# Altium footprint library ATMEGA328P-MUR.PcbLib: 3 footprints
Each footprint in its own frame and in the unit in brackets; x right, y up, seen from the top. Pads: shape width x height; smd on the part's side, far side on the other; paste and mask are expansions set on the pad; w line width, h text height; cw(c..) or ccw(c..) is an arc to the next point about the centre after c.
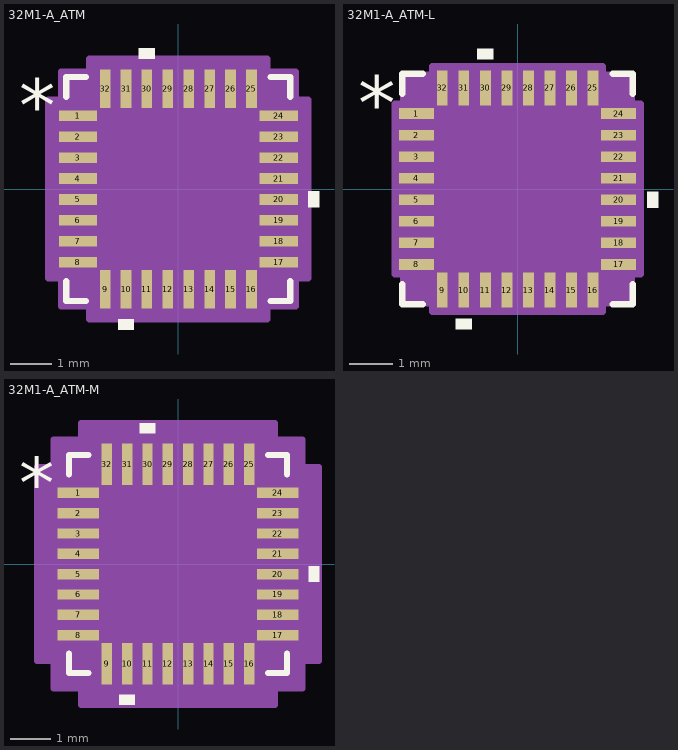
[diagram p0: the footprints below, top view; thin cyan lines are the x and y axes]

## 32M1-A_ATM [mil]
pads (32):
  rect 36x10 smd paste+0 mask+0: 1(-94.5,68.9) 2(-94.5,49.21) 3(-94.5,29.53) 4(-94.5,9.84) 5(-94.5,-9.84) 6(-94.5,-29.53) 7(-94.5,-49.21) 8(-94.5,-68.9) 17(94.5,-68.9) 18(94.5,-49.21) 19(94.5,-29.53) 20(94.5,-9.84) 21(94.5,9.84) 22(94.5,29.53) 23(94.5,49.21) 24(94.5,68.9)
  rect 10x36 smd paste+0 mask+0: 9(-68.9,-94.5) 10(-49.21,-94.5) 11(-29.53,-94.5) 12(-9.84,-94.5) 13(9.84,-94.5) 14(29.53,-94.5) 15(49.21,-94.5) 16(68.9,-94.5) 25(68.9,94.5) 26(49.21,94.5) 27(29.53,94.5) 28(9.84,94.5) 29(-9.84,94.5) 30(-29.53,94.5) 31(-49.21,94.5) 32(-68.9,94.5)
Top Overlay:
  region: -41.71,-122.5 -56.71,-122.5 -56.71,-132.5 -41.71,-132.5
  region: 122.5,-2.34 132.5,-2.34 132.5,-17.34 122.5,-17.34
  region: -22.03,122.5 -37.03,122.5 -37.03,132.5 -22.03,132.5
  lines w6: -105.5,-87 -105.5,-105.5 -87,-105.5 ; -105.5,87 -105.5,105.5 -87,105.5 ; 87,-105.5 105.5,-105.5 105.5,-87 ; 87,105.5 105.5,105.5 105.5,87
  text "*" at -150,53.74 h50
Mechanical 13:
  lines w1: -100.5,50.5 -50.5,100.5 ; -100.5,-100.5 100.5,-100.5 ; -100.5,-100.5 -100.5,100.5 ; -100.5,-100.5 -100.5,-100.5 ; -100.5,-74.9 -100.5,-62.9 ; -100.5,-74.9 -100.5,-62.9 ; -100.5,-74.9 -100.5,-74.9 ; -100.5,-62.9 -100.5,-62.9 ; -100.5,-55.21 -100.5,-43.21 ; -100.5,-55.21 -100.5,-43.21 ; -100.5,-55.21 -100.5,-55.21 ; -100.5,-43.21 -100.5,-43.21 ; -100.5,-35.53 -100.5,-23.53 ; -100.5,-35.53 -100.5,-23.53 ; -100.5,-35.53 -100.5,-35.53 ; -100.5,-23.53 -100.5,-23.53 ; -100.5,-15.84 -100.5,-3.84 ; -100.5,-15.84 -100.5,-3.84 ; -100.5,-15.84 -100.5,-15.84 ; -100.5,-3.84 -100.5,-3.84 ; -100.5,3.84 -100.5,15.84 ; -100.5,3.84 -100.5,15.84 ; -100.5,3.84 -100.5,3.84 ; -100.5,15.84 -100.5,15.84 ; -100.5,23.53 -100.5,35.53 ; -100.5,23.53 -100.5,35.53 ; -100.5,23.53 -100.5,23.53 ; -100.5,35.53 -100.5,35.53 ; -100.5,43.21 -100.5,55.21 ; -100.5,43.21 -100.5,55.21 ; -100.5,43.21 -100.5,43.21 ; -100.5,55.21 -100.5,55.21 ; -100.5,62.9 -100.5,74.9 ; -100.5,62.9 -100.5,74.9 ; -100.5,62.9 -100.5,62.9 ; -100.5,74.9 -100.5,74.9 ; -100.5,100.5 100.5,100.5 ; -100.5,100.5 -100.5,100.5 ; -74.9,-100.5 -62.9,-100.5 ; -74.9,-100.5 -74.9,-100.5 ; -74.9,-100.5 -62.9,-100.5 ; -74.9,100.5 -62.9,100.5 ; -74.9,100.5 -62.9,100.5 ; -74.9,100.5 -74.9,100.5 ; -62.9,-100.5 -62.9,-100.5 ; -62.9,100.5 -62.9,100.5 ; -55.21,-100.5 -43.21,-100.5 ; -55.21,-100.5 -55.21,-100.5 ; -55.21,-100.5 -43.21,-100.5 ; -55.21,100.5 -43.21,100.5 ; -55.21,100.5 -43.21,100.5 ; -55.21,100.5 -55.21,100.5 ; -43.21,-100.5 -43.21,-100.5 ; -43.21,100.5 -43.21,100.5 ; -35.53,-100.5 -23.53,-100.5 ; -35.53,-100.5 -35.53,-100.5 ; -35.53,-100.5 -23.53,-100.5 ; -35.53,100.5 -23.53,100.5 ; -35.53,100.5 -23.53,100.5 ; -35.53,100.5 -35.53,100.5 ; -23.53,-100.5 -23.53,-100.5 ; -23.53,100.5 -23.53,100.5 ; -15.84,-100.5 -3.84,-100.5 ; -15.84,-100.5 -15.84,-100.5 ; -15.84,-100.5 -3.84,-100.5 ; -15.84,100.5 -3.84,100.5 ; -15.84,100.5 -3.84,100.5 ; -15.84,100.5 -15.84,100.5 ; -3.84,-100.5 -3.84,-100.5 ; -3.84,100.5 -3.84,100.5 ; 3.84,-100.5 15.84,-100.5 ; 3.84,-100.5 3.84,-100.5 ; 3.84,-100.5 15.84,-100.5 ; 3.84,100.5 15.84,100.5 ; 3.84,100.5 15.84,100.5 ; 3.84,100.5 3.84,100.5 ; 15.84,-100.5 15.84,-100.5 ; 15.84,100.5 15.84,100.5 ; 23.53,-100.5 35.53,-100.5 ; 23.53,-100.5 23.53,-100.5 ; 23.53,-100.5 35.53,-100.5 ; 23.53,100.5 35.53,100.5 ; 23.53,100.5 35.53,100.5 ; 23.53,100.5 23.53,100.5 ; 35.53,-100.5 35.53,-100.5 ; 35.53,100.5 35.53,100.5 ; 43.21,-100.5 55.21,-100.5 ; 43.21,-100.5 43.21,-100.5 ; 43.21,-100.5 55.21,-100.5 ; 43.21,100.5 55.21,100.5 ; 43.21,100.5 55.21,100.5 ; 43.21,100.5 43.21,100.5 ; 55.21,-100.5 55.21,-100.5 ; 55.21,100.5 55.21,100.5 ; 62.9,-100.5 74.9,-100.5 ; 62.9,-100.5 62.9,-100.5 ; 62.9,-100.5 74.9,-100.5 ; 62.9,100.5 74.9,100.5 ; 62.9,100.5 74.9,100.5 ; 62.9,100.5 62.9,100.5 ; 74.9,-100.5 74.9,-100.5 ; 74.9,100.5 74.9,100.5 ; 100.5,-100.5 100.5,-100.5 ; 100.5,-100.5 100.5,100.5 ; 100.5,-74.9 100.5,-62.9 ; 100.5,-74.9 100.5,-74.9 ; 100.5,-74.9 100.5,-62.9 ; 100.5,-62.9 100.5,-62.9 ; 100.5,-55.21 100.5,-43.21 ; 100.5,-55.21 100.5,-55.21 ; 100.5,-55.21 100.5,-43.21 ; 100.5,-43.21 100.5,-43.21 ; 100.5,-35.53 100.5,-23.53 ; 100.5,-35.53 100.5,-35.53 ; 100.5,-35.53 100.5,-23.53 ; 100.5,-23.53 100.5,-23.53 ; 100.5,-15.84 100.5,-3.84 ; 100.5,-15.84 100.5,-15.84 ; 100.5,-15.84 100.5,-3.84 ; 100.5,-3.84 100.5,-3.84 ; 100.5,3.84 100.5,15.84 ; 100.5,3.84 100.5,3.84 ; 100.5,3.84 100.5,15.84 ; 100.5,15.84 100.5,15.84 ; 100.5,23.53 100.5,35.53 ; 100.5,23.53 100.5,23.53 ; 100.5,23.53 100.5,35.53 ; 100.5,35.53 100.5,35.53 ; 100.5,43.21 100.5,55.21 ; 100.5,43.21 100.5,43.21 ; 100.5,43.21 100.5,55.21 ; 100.5,55.21 100.5,55.21 ; 100.5,62.9 100.5,74.9 ; 100.5,62.9 100.5,62.9 ; 100.5,62.9 100.5,74.9 ; 100.5,74.9 100.5,74.9 ; 100.5,100.5 100.5,100.5
  text "*" at -89,53.74 h50
Mechanical 15:
  region: -83.9,-110.5 -110.5,-110.5 -110.5,-83.9 -122.5,-83.9 -122.5,83.9 -110.5,83.9 -110.5,110.5 -83.9,110.5 -83.9,122.5 83.9,122.5 83.9,110.5 110.5,110.5 110.5,83.9 122.5,83.9 122.5,-83.9 110.5,-83.9 110.5,-110.5 83.9,-110.5 83.9,-122.5 -83.9,-122.5
  lines w6: -122.5,-83.9 -110.5,-83.9 -110.5,-110.5 -83.9,-110.5 -83.9,-122.5 83.9,-122.5 83.9,-110.5 110.5,-110.5 110.5,-83.9 122.5,-83.9 122.5,83.9 110.5,83.9 110.5,110.5 83.9,110.5 83.9,122.5 -83.9,122.5 -83.9,110.5 -110.5,110.5 -110.5,83.9 -122.5,83.9 -122.5,-83.9
3D body "32M1-A_ATM.step": height 65.12, standoff 0, extent -100.51,-100.51 100.51,100.51

## 32M1-A_ATM-L [mil]
pads (32):
  rect 32x10 smd paste+0 mask+0: 1(-92.5,68.9) 2(-92.5,49.21) 3(-92.5,29.53) 4(-92.5,9.84) 5(-92.5,-9.84) 6(-92.5,-29.53) 7(-92.5,-49.21) 8(-92.5,-68.9) 17(92.5,-68.9) 18(92.5,-49.21) 19(92.5,-29.53) 20(92.5,-9.84) 21(92.5,9.84) 22(92.5,29.53) 23(92.5,49.21) 24(92.5,68.9)
  rect 10x32 smd paste+0 mask+0: 9(-68.9,-92.5) 10(-49.21,-92.5) 11(-29.53,-92.5) 12(-9.84,-92.5) 13(9.84,-92.5) 14(29.53,-92.5) 15(49.21,-92.5) 16(68.9,-92.5) 25(68.9,92.5) 26(49.21,92.5) 27(29.53,92.5) 28(9.84,92.5) 29(-9.84,92.5) 30(-29.53,92.5) 31(-49.21,92.5) 32(-68.9,92.5)
Top Overlay:
  region: -41.71,-118.5 -56.71,-118.5 -56.71,-128.5 -41.71,-128.5
  region: 118.5,-2.34 128.5,-2.34 128.5,-17.34 118.5,-17.34
  region: -22.03,118.5 -37.03,118.5 -37.03,128.5 -22.03,128.5
  lines w6: -105.5,-87 -105.5,-105.5 -87,-105.5 ; -105.5,87 -105.5,105.5 -87,105.5 ; 87,-105.5 105.5,-105.5 105.5,-87 ; 87,105.5 105.5,105.5 105.5,87
  text "*" at -146,53.74 h50
Mechanical 13:
  lines w1: -100.5,50.5 -50.5,100.5 ; -100.5,-100.5 100.5,-100.5 ; -100.5,-100.5 -100.5,100.5 ; -100.5,-100.5 -100.5,-100.5 ; -100.5,-74.9 -100.5,-62.9 ; -100.5,-74.9 -100.5,-62.9 ; -100.5,-74.9 -100.5,-74.9 ; -100.5,-62.9 -100.5,-62.9 ; -100.5,-55.21 -100.5,-43.21 ; -100.5,-55.21 -100.5,-43.21 ; -100.5,-55.21 -100.5,-55.21 ; -100.5,-43.21 -100.5,-43.21 ; -100.5,-35.53 -100.5,-23.53 ; -100.5,-35.53 -100.5,-23.53 ; -100.5,-35.53 -100.5,-35.53 ; -100.5,-23.53 -100.5,-23.53 ; -100.5,-15.84 -100.5,-3.84 ; -100.5,-15.84 -100.5,-3.84 ; -100.5,-15.84 -100.5,-15.84 ; -100.5,-3.84 -100.5,-3.84 ; -100.5,3.84 -100.5,15.84 ; -100.5,3.84 -100.5,15.84 ; -100.5,3.84 -100.5,3.84 ; -100.5,15.84 -100.5,15.84 ; -100.5,23.53 -100.5,35.53 ; -100.5,23.53 -100.5,35.53 ; -100.5,23.53 -100.5,23.53 ; -100.5,35.53 -100.5,35.53 ; -100.5,43.21 -100.5,55.21 ; -100.5,43.21 -100.5,55.21 ; -100.5,43.21 -100.5,43.21 ; -100.5,55.21 -100.5,55.21 ; -100.5,62.9 -100.5,74.9 ; -100.5,62.9 -100.5,74.9 ; -100.5,62.9 -100.5,62.9 ; -100.5,74.9 -100.5,74.9 ; -100.5,100.5 100.5,100.5 ; -100.5,100.5 -100.5,100.5 ; -74.9,-100.5 -62.9,-100.5 ; -74.9,-100.5 -74.9,-100.5 ; -74.9,-100.5 -62.9,-100.5 ; -74.9,100.5 -62.9,100.5 ; -74.9,100.5 -62.9,100.5 ; -74.9,100.5 -74.9,100.5 ; -62.9,-100.5 -62.9,-100.5 ; -62.9,100.5 -62.9,100.5 ; -55.21,-100.5 -43.21,-100.5 ; -55.21,-100.5 -55.21,-100.5 ; -55.21,-100.5 -43.21,-100.5 ; -55.21,100.5 -43.21,100.5 ; -55.21,100.5 -43.21,100.5 ; -55.21,100.5 -55.21,100.5 ; -43.21,-100.5 -43.21,-100.5 ; -43.21,100.5 -43.21,100.5 ; -35.53,-100.5 -23.53,-100.5 ; -35.53,-100.5 -35.53,-100.5 ; -35.53,-100.5 -23.53,-100.5 ; -35.53,100.5 -23.53,100.5 ; -35.53,100.5 -23.53,100.5 ; -35.53,100.5 -35.53,100.5 ; -23.53,-100.5 -23.53,-100.5 ; -23.53,100.5 -23.53,100.5 ; -15.84,-100.5 -3.84,-100.5 ; -15.84,-100.5 -15.84,-100.5 ; -15.84,-100.5 -3.84,-100.5 ; -15.84,100.5 -3.84,100.5 ; -15.84,100.5 -3.84,100.5 ; -15.84,100.5 -15.84,100.5 ; -3.84,-100.5 -3.84,-100.5 ; -3.84,100.5 -3.84,100.5 ; 3.84,-100.5 15.84,-100.5 ; 3.84,-100.5 3.84,-100.5 ; 3.84,-100.5 15.84,-100.5 ; 3.84,100.5 15.84,100.5 ; 3.84,100.5 15.84,100.5 ; 3.84,100.5 3.84,100.5 ; 15.84,-100.5 15.84,-100.5 ; 15.84,100.5 15.84,100.5 ; 23.53,-100.5 35.53,-100.5 ; 23.53,-100.5 23.53,-100.5 ; 23.53,-100.5 35.53,-100.5 ; 23.53,100.5 35.53,100.5 ; 23.53,100.5 35.53,100.5 ; 23.53,100.5 23.53,100.5 ; 35.53,-100.5 35.53,-100.5 ; 35.53,100.5 35.53,100.5 ; 43.21,-100.5 55.21,-100.5 ; 43.21,-100.5 43.21,-100.5 ; 43.21,-100.5 55.21,-100.5 ; 43.21,100.5 55.21,100.5 ; 43.21,100.5 55.21,100.5 ; 43.21,100.5 43.21,100.5 ; 55.21,-100.5 55.21,-100.5 ; 55.21,100.5 55.21,100.5 ; 62.9,-100.5 74.9,-100.5 ; 62.9,-100.5 62.9,-100.5 ; 62.9,-100.5 74.9,-100.5 ; 62.9,100.5 74.9,100.5 ; 62.9,100.5 74.9,100.5 ; 62.9,100.5 62.9,100.5 ; 74.9,-100.5 74.9,-100.5 ; 74.9,100.5 74.9,100.5 ; 100.5,-100.5 100.5,-100.5 ; 100.5,-100.5 100.5,100.5 ; 100.5,-74.9 100.5,-62.9 ; 100.5,-74.9 100.5,-74.9 ; 100.5,-74.9 100.5,-62.9 ; 100.5,-62.9 100.5,-62.9 ; 100.5,-55.21 100.5,-43.21 ; 100.5,-55.21 100.5,-55.21 ; 100.5,-55.21 100.5,-43.21 ; 100.5,-43.21 100.5,-43.21 ; 100.5,-35.53 100.5,-23.53 ; 100.5,-35.53 100.5,-35.53 ; 100.5,-35.53 100.5,-23.53 ; 100.5,-23.53 100.5,-23.53 ; 100.5,-15.84 100.5,-3.84 ; 100.5,-15.84 100.5,-15.84 ; 100.5,-15.84 100.5,-3.84 ; 100.5,-3.84 100.5,-3.84 ; 100.5,3.84 100.5,15.84 ; 100.5,3.84 100.5,3.84 ; 100.5,3.84 100.5,15.84 ; 100.5,15.84 100.5,15.84 ; 100.5,23.53 100.5,35.53 ; 100.5,23.53 100.5,23.53 ; 100.5,23.53 100.5,35.53 ; 100.5,35.53 100.5,35.53 ; 100.5,43.21 100.5,55.21 ; 100.5,43.21 100.5,43.21 ; 100.5,43.21 100.5,55.21 ; 100.5,55.21 100.5,55.21 ; 100.5,62.9 100.5,74.9 ; 100.5,62.9 100.5,62.9 ; 100.5,62.9 100.5,74.9 ; 100.5,74.9 100.5,74.9 ; 100.5,100.5 100.5,100.5
  text "*" at -89,53.74 h50
Mechanical 15:
  region: -77.9,-104.5 -104.5,-104.5 -104.5,-77.9 -112.5,-77.9 -112.5,77.9 -104.5,77.9 -104.5,104.5 -77.9,104.5 -77.9,112.5 77.9,112.5 77.9,104.5 104.5,104.5 104.5,77.9 112.5,77.9 112.5,-77.9 104.5,-77.9 104.5,-104.5 77.9,-104.5 77.9,-112.5 -77.9,-112.5
  lines w6: -112.5,-77.9 -104.5,-77.9 -104.5,-104.5 -77.9,-104.5 -77.9,-112.5 77.9,-112.5 77.9,-104.5 104.5,-104.5 104.5,-77.9 112.5,-77.9 112.5,77.9 104.5,77.9 104.5,104.5 77.9,104.5 77.9,112.5 -77.9,112.5 -77.9,104.5 -104.5,104.5 -104.5,77.9 -112.5,77.9 -112.5,-77.9
3D body "32M1-A_ATM.step": height 65.12, standoff 0, extent -100.51,-100.51 100.51,100.51

## 32M1-A_ATM-M [mil]
pads (32):
  rect 40x10 smd paste+0 mask+0: 1(-96.5,68.9) 2(-96.5,49.21) 3(-96.5,29.53) 4(-96.5,9.84) 5(-96.5,-9.84) 6(-96.5,-29.53) 7(-96.5,-49.21) 8(-96.5,-68.9) 17(96.5,-68.9) 18(96.5,-49.21) 19(96.5,-29.53) 20(96.5,-9.84) 21(96.5,9.84) 22(96.5,29.53) 23(96.5,49.21) 24(96.5,68.9)
  rect 10x40 smd paste+0 mask+0: 9(-68.9,-96.5) 10(-49.21,-96.5) 11(-29.53,-96.5) 12(-9.84,-96.5) 13(9.84,-96.5) 14(29.53,-96.5) 15(49.21,-96.5) 16(68.9,-96.5) 25(68.9,96.5) 26(49.21,96.5) 27(29.53,96.5) 28(9.84,96.5) 29(-9.84,96.5) 30(-29.53,96.5) 31(-49.21,96.5) 32(-68.9,96.5)
Top Overlay:
  region: -41.71,-126.5 -56.71,-126.5 -56.71,-136.5 -41.71,-136.5
  region: 126.5,-2.34 136.5,-2.34 136.5,-17.34 126.5,-17.34
  region: -22.03,126.5 -37.03,126.5 -37.03,136.5 -22.03,136.5
  lines w6: -105.5,-87 -105.5,-105.5 -87,-105.5 ; -105.5,87 -105.5,105.5 -87,105.5 ; 87,-105.5 105.5,-105.5 105.5,-87 ; 87,105.5 105.5,105.5 105.5,87
  text "*" at -154,53.74 h50
Mechanical 13:
  lines w1: -100.5,50.5 -50.5,100.5 ; -100.5,-100.5 100.5,-100.5 ; -100.5,-100.5 -100.5,100.5 ; -100.5,-100.5 -100.5,-100.5 ; -100.5,-74.9 -100.5,-62.9 ; -100.5,-74.9 -100.5,-62.9 ; -100.5,-74.9 -100.5,-74.9 ; -100.5,-62.9 -100.5,-62.9 ; -100.5,-55.21 -100.5,-43.21 ; -100.5,-55.21 -100.5,-43.21 ; -100.5,-55.21 -100.5,-55.21 ; -100.5,-43.21 -100.5,-43.21 ; -100.5,-35.53 -100.5,-23.53 ; -100.5,-35.53 -100.5,-23.53 ; -100.5,-35.53 -100.5,-35.53 ; -100.5,-23.53 -100.5,-23.53 ; -100.5,-15.84 -100.5,-3.84 ; -100.5,-15.84 -100.5,-3.84 ; -100.5,-15.84 -100.5,-15.84 ; -100.5,-3.84 -100.5,-3.84 ; -100.5,3.84 -100.5,15.84 ; -100.5,3.84 -100.5,15.84 ; -100.5,3.84 -100.5,3.84 ; -100.5,15.84 -100.5,15.84 ; -100.5,23.53 -100.5,35.53 ; -100.5,23.53 -100.5,35.53 ; -100.5,23.53 -100.5,23.53 ; -100.5,35.53 -100.5,35.53 ; -100.5,43.21 -100.5,55.21 ; -100.5,43.21 -100.5,55.21 ; -100.5,43.21 -100.5,43.21 ; -100.5,55.21 -100.5,55.21 ; -100.5,62.9 -100.5,74.9 ; -100.5,62.9 -100.5,74.9 ; -100.5,62.9 -100.5,62.9 ; -100.5,74.9 -100.5,74.9 ; -100.5,100.5 100.5,100.5 ; -100.5,100.5 -100.5,100.5 ; -74.9,-100.5 -62.9,-100.5 ; -74.9,-100.5 -74.9,-100.5 ; -74.9,-100.5 -62.9,-100.5 ; -74.9,100.5 -62.9,100.5 ; -74.9,100.5 -62.9,100.5 ; -74.9,100.5 -74.9,100.5 ; -62.9,-100.5 -62.9,-100.5 ; -62.9,100.5 -62.9,100.5 ; -55.21,-100.5 -43.21,-100.5 ; -55.21,-100.5 -55.21,-100.5 ; -55.21,-100.5 -43.21,-100.5 ; -55.21,100.5 -43.21,100.5 ; -55.21,100.5 -43.21,100.5 ; -55.21,100.5 -55.21,100.5 ; -43.21,-100.5 -43.21,-100.5 ; -43.21,100.5 -43.21,100.5 ; -35.53,-100.5 -23.53,-100.5 ; -35.53,-100.5 -35.53,-100.5 ; -35.53,-100.5 -23.53,-100.5 ; -35.53,100.5 -23.53,100.5 ; -35.53,100.5 -23.53,100.5 ; -35.53,100.5 -35.53,100.5 ; -23.53,-100.5 -23.53,-100.5 ; -23.53,100.5 -23.53,100.5 ; -15.84,-100.5 -3.84,-100.5 ; -15.84,-100.5 -15.84,-100.5 ; -15.84,-100.5 -3.84,-100.5 ; -15.84,100.5 -3.84,100.5 ; -15.84,100.5 -3.84,100.5 ; -15.84,100.5 -15.84,100.5 ; -3.84,-100.5 -3.84,-100.5 ; -3.84,100.5 -3.84,100.5 ; 3.84,-100.5 15.84,-100.5 ; 3.84,-100.5 3.84,-100.5 ; 3.84,-100.5 15.84,-100.5 ; 3.84,100.5 15.84,100.5 ; 3.84,100.5 15.84,100.5 ; 3.84,100.5 3.84,100.5 ; 15.84,-100.5 15.84,-100.5 ; 15.84,100.5 15.84,100.5 ; 23.53,-100.5 35.53,-100.5 ; 23.53,-100.5 23.53,-100.5 ; 23.53,-100.5 35.53,-100.5 ; 23.53,100.5 35.53,100.5 ; 23.53,100.5 35.53,100.5 ; 23.53,100.5 23.53,100.5 ; 35.53,-100.5 35.53,-100.5 ; 35.53,100.5 35.53,100.5 ; 43.21,-100.5 55.21,-100.5 ; 43.21,-100.5 43.21,-100.5 ; 43.21,-100.5 55.21,-100.5 ; 43.21,100.5 55.21,100.5 ; 43.21,100.5 55.21,100.5 ; 43.21,100.5 43.21,100.5 ; 55.21,-100.5 55.21,-100.5 ; 55.21,100.5 55.21,100.5 ; 62.9,-100.5 74.9,-100.5 ; 62.9,-100.5 62.9,-100.5 ; 62.9,-100.5 74.9,-100.5 ; 62.9,100.5 74.9,100.5 ; 62.9,100.5 74.9,100.5 ; 62.9,100.5 62.9,100.5 ; 74.9,-100.5 74.9,-100.5 ; 74.9,100.5 74.9,100.5 ; 100.5,-100.5 100.5,-100.5 ; 100.5,-100.5 100.5,100.5 ; 100.5,-74.9 100.5,-62.9 ; 100.5,-74.9 100.5,-74.9 ; 100.5,-74.9 100.5,-62.9 ; 100.5,-62.9 100.5,-62.9 ; 100.5,-55.21 100.5,-43.21 ; 100.5,-55.21 100.5,-55.21 ; 100.5,-55.21 100.5,-43.21 ; 100.5,-43.21 100.5,-43.21 ; 100.5,-35.53 100.5,-23.53 ; 100.5,-35.53 100.5,-35.53 ; 100.5,-35.53 100.5,-23.53 ; 100.5,-23.53 100.5,-23.53 ; 100.5,-15.84 100.5,-3.84 ; 100.5,-15.84 100.5,-15.84 ; 100.5,-15.84 100.5,-3.84 ; 100.5,-3.84 100.5,-3.84 ; 100.5,3.84 100.5,15.84 ; 100.5,3.84 100.5,3.84 ; 100.5,3.84 100.5,15.84 ; 100.5,15.84 100.5,15.84 ; 100.5,23.53 100.5,35.53 ; 100.5,23.53 100.5,23.53 ; 100.5,23.53 100.5,35.53 ; 100.5,35.53 100.5,35.53 ; 100.5,43.21 100.5,55.21 ; 100.5,43.21 100.5,43.21 ; 100.5,43.21 100.5,55.21 ; 100.5,55.21 100.5,55.21 ; 100.5,62.9 100.5,74.9 ; 100.5,62.9 100.5,62.9 ; 100.5,62.9 100.5,74.9 ; 100.5,74.9 100.5,74.9 ; 100.5,100.5 100.5,100.5
  text "*" at -89,53.74 h50
Mechanical 15:
  region: -93.9,-120.5 -120.5,-120.5 -120.5,-93.9 -136.5,-93.9 -136.5,93.9 -120.5,93.9 -120.5,120.5 -93.9,120.5 -93.9,136.5 93.9,136.5 93.9,120.5 120.5,120.5 120.5,93.9 136.5,93.9 136.5,-93.9 120.5,-93.9 120.5,-120.5 93.9,-120.5 93.9,-136.5 -93.9,-136.5
  lines w6: -136.5,-93.9 -120.5,-93.9 -120.5,-120.5 -93.9,-120.5 -93.9,-136.5 93.9,-136.5 93.9,-120.5 120.5,-120.5 120.5,-93.9 136.5,-93.9 136.5,93.9 120.5,93.9 120.5,120.5 93.9,120.5 93.9,136.5 -93.9,136.5 -93.9,120.5 -120.5,120.5 -120.5,93.9 -136.5,93.9 -136.5,-93.9
3D body "32M1-A_ATM.step": height 65.12, standoff 0, extent -100.51,-100.51 100.51,100.51